# Altium schematic symbol library WCAP-CSGP_0805_X7R.SchLib: 5 symbols
Pins are listed as number, name and electrical type; pins without a type are passive.

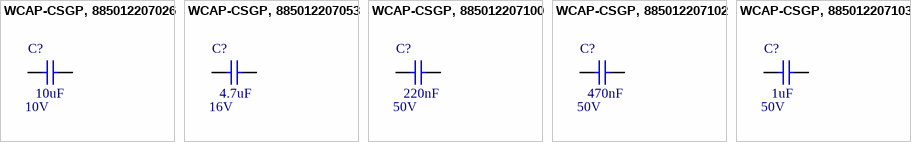
[diagram p0: symbols WCAP-CSGP, 885012207026 to WCAP-CSGP, 885012207103]

## WCAP-CSGP, 885012207026
designator C?, comment 10uF  RatedVoltage: 10V
CAP CER 10uF 10V X7R 0805; Manufacturer: Wurth Elektronik; Manufacturer Part Number: 885012207026; PublishedDate: Aug 2016; ComponentLink1Description: Manufacturer; ComponentLink1URL: http://www.we-online.de; ComponentLink2Description: Datasheet; ComponentLink2URL: http://katalog.we-online.com/pbs/datasheet/885012207026.pdf; Value: 10uF; Size: 0805; CeramicType: X7R
footprint WCAP-CSGP_0805, 2x1.25x1.25
pins: 1, 2

## WCAP-CSGP, 885012207053
designator C?, comment 4.7uF  RatedVoltage: 16V
CAP CER 4.7uF 16V X7R 0805; Manufacturer: Wurth Elektronik; Manufacturer Part Number: 885012207053; PublishedDate: Aug 2016; ComponentLink1Description: Manufacturer; ComponentLink1URL: http://www.we-online.de; ComponentLink2Description: Datasheet; ComponentLink2URL: http://katalog.we-online.com/pbs/datasheet/885012207053.pdf; Value: 4.7uF; Size: 0805; CeramicType: X7R
footprint WCAP-CSGP_0805, 2x1.25x1.25
pins: 1, 2

## WCAP-CSGP, 885012207100
designator C?, comment 220nF  RatedVoltage: 50V
CAP CER 220nF 50V X7R 0805; Manufacturer: Wurth Elektronik; Manufacturer Part Number: 885012207100; PublishedDate: Aug 2016; ComponentLink1Description: Manufacturer; ComponentLink1URL: http://www.we-online.de; ComponentLink2Description: Datasheet; ComponentLink2URL: http://katalog.we-online.com/pbs/datasheet/885012207100.pdf; Value: 220nF; Size: 0805; CeramicType: X7R
footprint WCAP-CSGP_0805, 2x1.25x1.25
pins: 1, 2

## WCAP-CSGP, 885012207102
designator C?, comment 470nF  RatedVoltage: 50V
CAP CER 470nF 50V X7R 0805; Manufacturer: Wurth Elektronik; Manufacturer Part Number: 885012207102; PublishedDate: Aug 2016; ComponentLink1Description: Manufacturer; ComponentLink1URL: http://www.we-online.de; ComponentLink2Description: Datasheet; ComponentLink2URL: http://katalog.we-online.com/pbs/datasheet/885012207102.pdf; Value: 470nF; Size: 0805; CeramicType: X7R
footprint WCAP-CSGP_0805, 2x1.25x1.25
pins: 1, 2

## WCAP-CSGP, 885012207103
designator C?, comment 1uF  RatedVoltage: 50V
CAP CER 1uF 50V X7R 0805; Manufacturer: Wurth Elektronik; Manufacturer Part Number: 885012207103; PublishedDate: Aug 2016; ComponentLink1Description: Manufacturer; ComponentLink1URL: http://www.we-online.de; ComponentLink2Description: Datasheet; ComponentLink2URL: http://katalog.we-online.com/pbs/datasheet/885012207103.pdf; Value: 1uF; Size: 0805; CeramicType: X7R; Supplier 2: JLCPCB; Supplier Part Number 2: C28323
footprint WCAP-CSGP_0805, 2x1.25x1.25
pins: 1, 2